# Altium footprint library 42819-x2x3.PcbLib: 5 footprints
Each footprint in its own frame and in the unit in brackets; x right, y up, seen from the top. Pads: shape width x height; smd on the part's side, far side on the other; paste and mask are expansions set on the pad; w line width, h text height; cw(c..) or ccw(c..) is an arc to the next point about the centre after c.
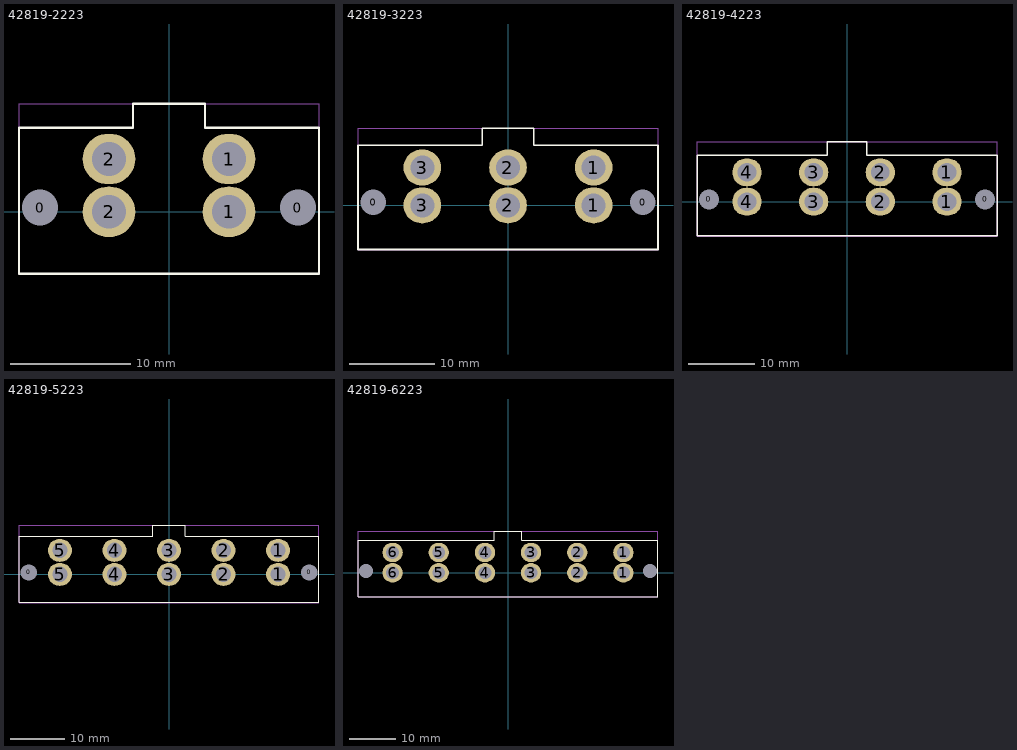
[diagram p0: the footprints below, top view; thin cyan lines are the x and y axes]

## 42819-2223 [mm]
pads (6):
  oval 2x1.5 hole 3: 0(-10.73,0.35) 0(10.73,0.35)
  oval 4.4x4.2 hole 2.8: 1(5,0) 1(5,4.4) 2(-5,0) 2(-5,4.4)
Top Overlay:
  lines w0.2: -12.5,-5.15 -12.5,7 -3,7 -3,9 3,9 3,7 12.5,7 12.5,-5.15 -12.5,-5.15
Border:
  lines w0.1: -12.5,-5.2 12.5,-5.2 12.5,9 -12.5,9 -12.5,-5.2
3D body "42819-2223.stp": height 21, standoff -5.1, extent -11.91,-5.15 11.91,8.45

## 42819-3223 [mm]
pads (8):
  oval 2x1.5 hole 3: 0(-15.73,0.35) 0(15.73,0.35)
  oval 4.4x4.2 hole 2.8: 1(10,0) 1(10,4.4) 2(0,0) 2(0,4.4) 3(-10,0) 3(-10,4.4)
Top Overlay:
  lines w0.2: -17.5,-5.15 17.5,-5.15 17.5,7 3,7 3,9 -3,9 -3,7 -17.5,7 -17.5,-5.15
Border:
  lines w0.1: -17.5,-5.2 -17.5,9 17.5,9 17.5,-5.2 -17.5,-5.2
3D body "42819-3223.stp": height 21, standoff -5.1, extent -16.91,-5.15 16.91,8.45

## 42819-4223 [mm]
pads (10):
  oval 2x1.5 hole 3: 0(-20.73,0.35) 0(20.73,0.35)
  oval 4.4x4.2 hole 2.8: 1(15,0) 1(15,4.4) 2(5,0) 2(5,4.4) 3(-5,0) 3(-5,4.4) 4(-15,0) 4(-15,4.4)
Top Overlay:
  lines w0.2: -22.5,-5.15 22.5,-5.15 22.5,7 3,7 3,9 -3,9 -3,7 -22.5,7 -22.5,-5.15
Border:
  lines w0.1: -22.5,-5.2 -22.5,9 22.5,9 22.5,-5.2 -22.5,-5.2
3D body "42819-4223.stp": height 21, standoff -5.1, extent -21.91,-5.15 21.91,8.45

## 42819-5223 [mm]
pads (12):
  oval 2x1.5 hole 3: 0(-25.73,0.35) 0(25.73,0.35)
  oval 4.4x4.2 hole 2.8: 1(20,0) 1(20,4.4) 2(10,0) 2(10,4.4) 3(0,0) 3(0,4.4) 4(-10,0) 4(-10,4.4) 5(-20,0) 5(-20,4.4)
Top Overlay:
  lines w0.2: -27.5,-5.15 27.5,-5.15 27.5,7 3,7 3,9 -3,9 -3,7 -27.5,7 -27.5,-5.15
Border:
  lines w0.1: -27.5,-5.2 -27.5,9 27.5,9 27.5,-5.2 -27.5,-5.2
3D body "42819-5223.stp": height 21, standoff -5.1, extent -26.91,-5.15 26.915,8.45

## 42819-6223 [mm]
pads (14):
  oval 2x1.5 hole 3: 0(-30.73,0.35) 0(30.73,0.35)
  oval 4.4x4.2 hole 2.8: 1(25,0) 1(25,4.4) 2(15,0) 2(15,4.4) 3(5,0) 3(5,4.4) 4(-5,0) 4(-5,4.4) 5(-15,0) 5(-15,4.4) 6(-25,0) 6(-25,4.4)
Top Overlay:
  lines w0.2: -32.5,-5.15 -32.5,7 -3,7 -3,9 3,9 3,7 32.5,7 32.5,-5.15 -32.5,-5.15
Border:
  lines w0.1: -32.5,-5.2 32.5,-5.2 32.5,9 -32.5,9 -32.5,-5.2
3D body "42819-6223.stp": height 21, standoff -5.1, extent -31.91,-5.15 31.91,8.45